# Altium schematic symbol library custom_symbols.SchLib: 1 symbol
Pins are listed as number, name and electrical type; pins without a type are passive.

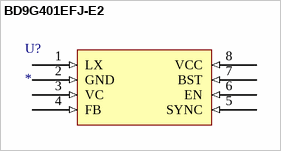
[diagram p0: symbol BD9G401EFJ-E2]

## BD9G401EFJ-E2
designator U?
BD9G401EFJ is buck converters with built-in high side / MOSFET. It has an input voltage range of 4.5V to 42V. / Current mode architecture provides fast transient / response and a simple phase compensation setup.; ComponentLink1Description: Manufactuer Link; ComponentLink1URL: https://www.digikey.ca/en/products/detail/rohm-semiconductor/BD9G401EFJ-E2/25927541; ComponentLink2Description: Data Sheet; ComponentLink2URL: https://fscdn.rohm.com/en/products/databook/datasheet/ic/power/switching_regulator/bd9g401efj-e.pdf
footprint SOIC127P600X100_HS-9N (SOIC, 8-Leads, Body 5.03x3.90mm, Pitch 1.27mm, Thermal Pad 2.20x1.80mm, IPC Medium Density)
footprint SOIC127P600X100_HS-9N (SOIC, 8-Leads, Body 5.03x3.90mm, Pitch 1.27mm, Thermal Pad 2.20x1.80mm, IPC Medium Density)
pins: 1 LX (in), 2 GND (in), 3 VC (in), 4 FB (in), 5 SYNC (in), 6 EN (in), 7 BST (in), 8 VCC (in)